# Altium schematic symbol library MOSFET - TPN19008QM_LQ.SchLib: 1 symbol
Pins are listed as number, name and electrical type; pins without a type are passive.

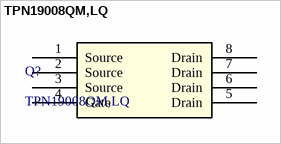
[diagram p0: symbol TPN19008QM,LQ]

## TPN19008QM,LQ
designator Q?
Power MOSFET, N Channel, 80 V, 38 A, 0.0147 ohm, TSON, Surface Mount; Manufacturer_Name: Toshiba Electronic Devices & Storage Corp.; Copyright: Copyright (C) 2025 Ultra Librarian. All rights reserved.; Manufacturer_Part_Number: TPN19008QM,LQ; RefDes: RefDes; Type: Type; Supplier 1: Mouser; Supplier Part Number 1: 757-TPN19008QM,LQ
footprint 8-TSON - TOSHIBA
pins: 1 Source, 2 Source, 3 Source, 4 Gate, 5 Drain, 6 Drain, 7 Drain, 8 Drain